# EAGLE library part NEO-M8 (library DAWA-MAIN-7.0)
u-blox NEO GNSS module
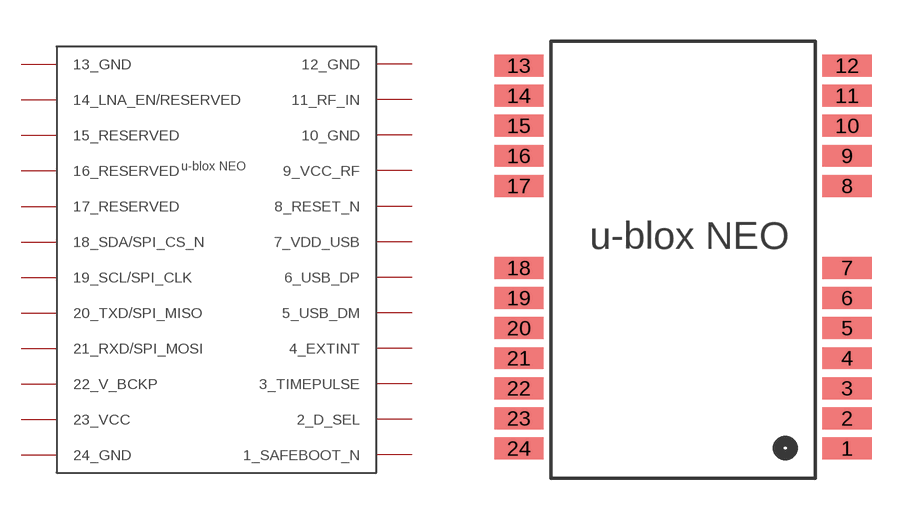
[diagram p9: symbol with the pads of NEO-M8; footprint NEO-M8]

Designator prefix U

## NEO-M8 (MPN: NEO-M8N-0; URL_ALIEXPRESS: https://fr.aliexpress.com/item/1005001789425115.html)  [NEO-M8]
1  1_SAFEBOOT_N
2  2_D_SEL
3  3_TIMEPULSE
4  4_EXTINT
5  5_USB_DM
6  6_USB_DP
7  7_VDD_USB
8  8_RESET_N
9  9_VCC_RF
10  10_GND
11  11_RF_IN
12  12_GND
13  13_GND
14  14_LNA_EN/RESERVED
15  15_RESERVED
16  16_RESERVED
17  17_RESERVED
18  18_SDA/SPI_CS_N
19  19_SCL/SPI_CLK
20  20_TXD/SPI_MISO
21  21_RXD/SPI_MOSI
22  22_V_BCKP
23  23_VCC
24  24_GND

## Footprint NEO-M8 (pad centres in mm)
u-blox NEO GNSS module
smd 1.8 x 0.8: 1 6.4,-7.4; 2 6.4,-6.3; 3 6.4,-5.2; 4 6.4,-4.1; 5 6.4,-3; 6 6.4,-1.9; 7 6.4,-0.8; 8 6.4,2.2; 9 6.4,3.3; 10 6.4,4.4; 11 6.4,5.5; 12 6.4,6.6; 13 -5.6,6.6; 14 -5.6,5.5; 15 -5.6,4.4; 16 -5.6,3.3; 17 -5.6,2.2; 18 -5.6,-0.8; 19 -5.6,-1.9; 20 -5.6,-3; 21 -5.6,-4.1; 22 -5.6,-5.2; 23 -5.6,-6.3; 24 -5.6,-7.4